# EAGLE library part PIC12F629_SIMPLE (library snes_div)
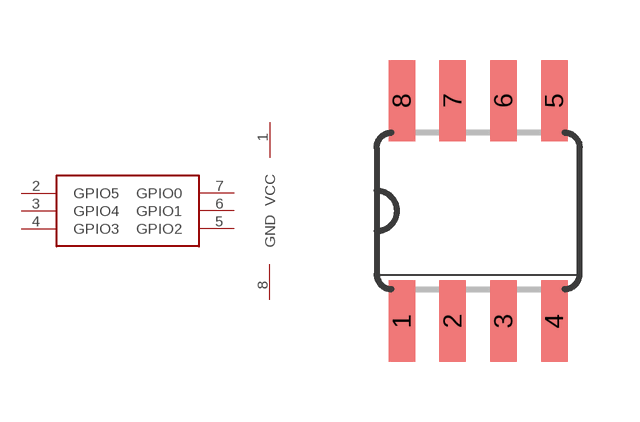
[diagram p5: symbol with the pads of PIC12F629; footprint PIC12F629]

Designator prefix -; gates G$1=PIC12F629_SIMPLE G$2=PWR

## PIC12F629_SIMPLE  [PIC12F629]
1  G$2:VCC
2  G$1:GPIO5
3  G$1:GPIO4
4  G$1:GPIO3
5  G$1:GPIO2
6  G$1:GPIO1
7  G$1:GPIO0
8  G$2:GND

## Footprint PIC12F629 (pad centres in mm)
smd 0.66 x 2.032: 1 -1.905,-2.756; 2 -0.635,-2.756; 3 0.635,-2.756; 4 1.905,-2.756; 5 1.905,2.756; 6 0.635,2.756; 7 -0.635,2.756; 8 -1.905,2.756